# Altium integrated library ASFLMB-100.000MHZ-LC-T.IntLib: 1 symbol
Pins are listed as number, name and electrical type; pins without a type are passive.

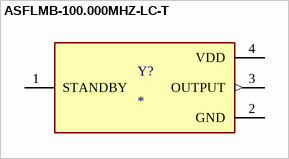
[diagram p0: symbol ASFLMB-100.000MHZ-LC-T]

## ASFLMB-100.000MHZ-LC-T
designator Y?
MP: ASFLMB-100.000MHZ-LC-T; Price: None; Package: None; Availability: Unavailable; Value: *
footprint XTAL_ASFLMB-100.000MHZ-LC-T
pins: 1 STANDBY, 2 GND (power), 3 OUTPUT (out), 4 VDD (power)